# EAGLE library part ED100/6DS (library myLib)
ED100/6DS terminal block
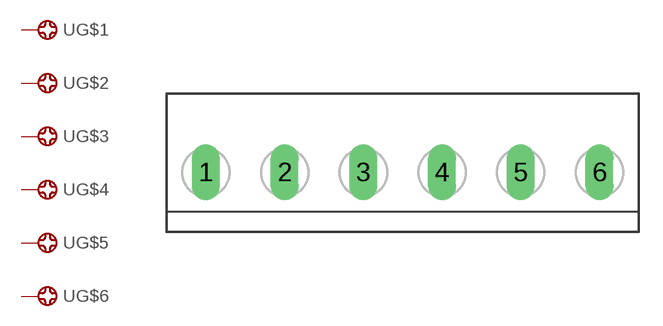
[diagram p12: symbol with the pads of ED100/6DS; footprint ED100/6DS]

Designator prefix -; gates G$1=CONNECT G$2=CONNECT G$3=CONNECT G$4=CONNECT G$5=CONNECT G$6=CONNECT

## ED100/6DS  [ED100/6DS]
1  G$1:1  pas
2  G$2:1  pas
3  G$3:1  pas
4  G$4:1  pas
5  G$5:1  pas
6  G$6:1  pas

## Footprint ED100/6DS (pad centres in mm)
drill 1.194 long: 1 -12.5,0; 2 -7.5,0; 3 -2.5,0; 4 2.5,0; 5 7.5,0; 6 12.5,0